# EAGLE library part LIWE_12_PIN_PWR (library 25cmsquare)
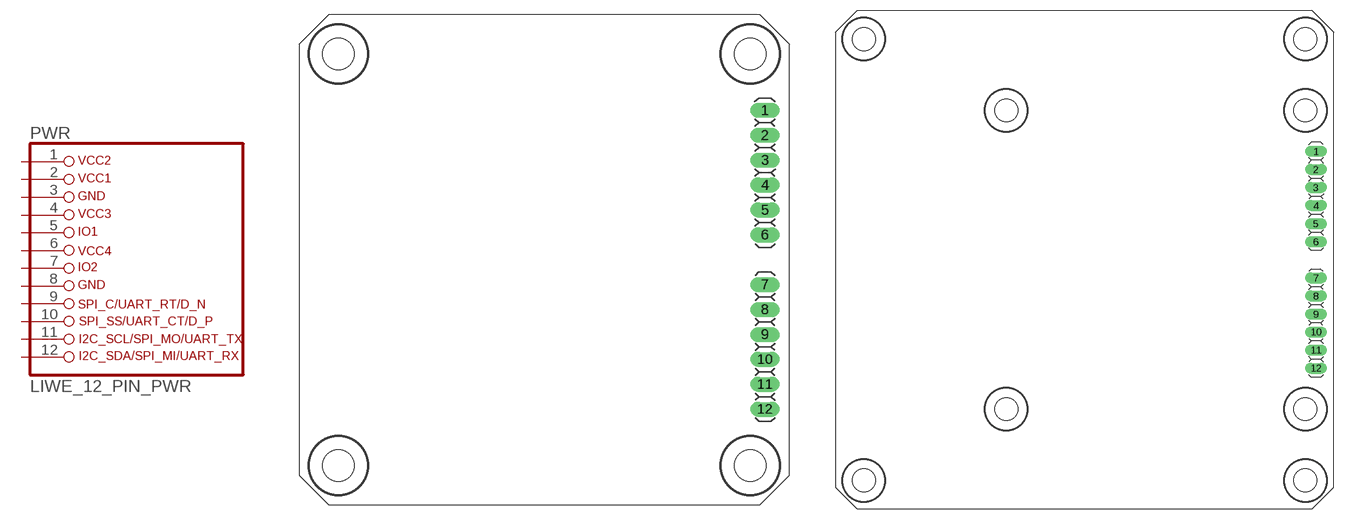
[diagram p5: symbol with the pads of LIWE_12_PIN; footprints LIWE_12_PIN, LIWE_12_PIN_7X7_COMPAT]

Designator prefix PWR

## LIWE_12_PIN_PWR5X5  [LIWE_12_PIN]
1  1  pas
2  2  pas
3  3  pas
4  4  pas
5  5  pas
6  6  pas
7  7  pas
8  8  pas
9  9  pas
10  10  pas
11  11  pas
12  12  pas

## LIWE_12_PIN_PWR7X7_COMPAT  [LIWE_12_PIN_7X7_COMPAT]
Pads as for LIWE_12_PIN

## LIWE_12_PIN_PWR10X10_COMPAT  [LIWE_12_PIN_10X10_COMPAT]
Pads as for LIWE_12_PIN

## LIWE_12_PIN_PWR8X8_COMPAT  [LIWE_12_PIN_8X8_COMPAT]
Pads as for LIWE_12_PIN

## Footprint LIWE_12_PIN (pad centres in mm)
drill 1.016 long: 1 22.5,15.24; 2 22.5,12.7; 3 22.5,10.16; 4 22.5,7.62; 5 22.5,5.08; 6 22.5,2.54; 7 22.5,-2.54; 8 22.5,-5.08; 9 22.5,-7.62; 10 22.5,-10.16; 11 22.5,-12.7; 12 22.5,-15.24
hole 3.2 at -21,-21
hole 3.2 at 21,-21
hole 3.2 at -21,21
hole 3.2 at 21,21

## Footprint LIWE_12_PIN_7X7_COMPAT (pad centres in mm)
drill 1.016 long: 1 67.5,50.24; 2 67.5,47.7; 3 67.5,45.16; 4 67.5,42.62; 5 67.5,40.08; 6 67.5,37.54; 7 67.5,32.46; 8 67.5,29.92; 9 67.5,27.38; 10 67.5,24.84; 11 67.5,22.3; 12 67.5,19.76
hole 3.2 at 24,14
hole 3.2 at 66,14
hole 3.2 at 24,56
hole 3.2 at 66,56
hole 3.2 at 4,66
hole 3.2 at 4,4
hole 3.2 at 66,4
hole 3.2 at 66,66

## Footprint LIWE_12_PIN_10X10_COMPAT (pad centres in mm)
drill 1.016 long: 1 97.5,65.24; 2 97.5,62.7; 3 97.5,60.16; 4 97.5,57.62; 5 97.5,55.08; 6 97.5,52.54; 7 97.5,47.46; 8 97.5,44.92; 9 97.5,42.38; 10 97.5,39.84; 11 97.5,37.3; 12 97.5,34.76
hole 3.2 at 4,4
hole 3.2 at 96,4
hole 3.2 at 4,96
hole 3.2 at 96,96
hole 3.2 at 34,81
hole 3.2 at 34,19
hole 3.2 at 96,19
hole 3.2 at 96,81
hole 3.2 at 54,29
hole 3.2 at 96,29
hole 3.2 at 54,71
hole 3.2 at 96,71

## Footprint LIWE_12_PIN_8X8_COMPAT (pad centres in mm)
drill 1.016 long: 1 77.5,55.24; 2 77.5,52.7; 3 77.5,50.16; 4 77.5,47.62; 5 77.5,45.08; 6 77.5,42.54; 7 77.5,37.46; 8 77.5,34.92; 9 77.5,32.38; 10 77.5,29.84; 11 77.5,27.3; 12 77.5,24.76; 21 77.5,65.4; 22 77.5,62.86; 23 77.5,60.32; 24 77.5,57.78; 25 77.5,22.22; 26 77.5,19.68; 27 77.5,17.14; 28 77.5,14.6
hole 3.2 at 34,19
hole 3.2 at 34,61
hole 3.2 at 4,76
hole 3.2 at 4,4
hole 3.2 at 76,4
hole 3.2 at 76,76